# EAGLE library part W9825G6JH (library xess)
16M x 16 SDRAM 256Mb synchronous DRAM.
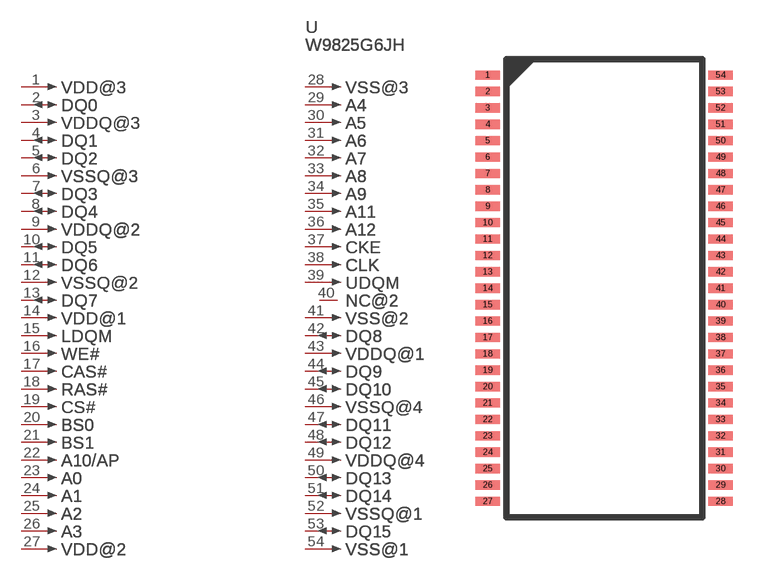
[diagram p134: symbol with the pads of TSOPII-54; footprint TSOPII-54]

Designator prefix U; gates PART=PV_GATE VDD@3=PIN_GATE_IN DQ0=PIN_GATE_IO VDDQ@3=PIN_GATE_IN DQ1=PIN_GATE_IO DQ2=PIN_GATE_IO VSSQ@3=PIN_GATE_IN DQ3=PIN_GATE_IO DQ4=PIN_GATE_IO VDDQ@2=PIN_GATE_IN DQ5=PIN_GATE_IO DQ6=PIN_GATE_IO VSSQ@2=PIN_GATE_IN DQ7=PIN_GATE_IO VDD@1=PIN_GATE_IN LDQM=PIN_GATE_IN WE#=PIN_GATE_IN CAS#=PIN_GATE_IN RAS#=PIN_GATE_IN CS#=PIN_GATE_IN BS0=PIN_GATE_IN BS1=PIN_GATE_IN A10/AP=PIN_GATE_IN A0=PIN_GATE_IN A1=PIN_GATE_IN A2=PIN_GATE_IN A3=PIN_GATE_IN VDD@2=PIN_GATE_IN VSS@3=PIN_GATE_IN A4=PIN_GATE_IN A5=PIN_GATE_IN A6=PIN_GATE_IN A7=PIN_GATE_IN A8=PIN_GATE_IN A9=PIN_GATE_IN A11=PIN_GATE_IN CKE=PIN_GATE_IN CLK=PIN_GATE_IN UDQM=PIN_GATE_IN NC@2=PIN_GATE_NC VSS@2=PIN_GATE_IN DQ8=PIN_GATE_IO VDDQ@1=PIN_GATE_IN DQ9=PIN_GATE_IO DQ10=PIN_GATE_IO VSSQ@4=PIN_GATE_IN DQ11=PIN_GATE_IO DQ12=PIN_GATE_IO VDDQ@4=PIN_GATE_IN DQ13=PIN_GATE_IO DQ14=PIN_GATE_IO VSSQ@1=PIN_GATE_IN DQ15=PIN_GATE_IO VSS@1=PIN_GATE_IN A12=PIN_GATE_IN

## W9825G6JH  [TSOPII-54]
1  VDD@3:1  in
2  DQ0:1
3  VDDQ@3:1  in
4  DQ1:1
5  DQ2:1
6  VSSQ@3:1  in
7  DQ3:1
8  DQ4:1
9  VDDQ@2:1  in
10  DQ5:1
11  DQ6:1
12  VSSQ@2:1  in
13  DQ7:1
14  VDD@1:1  in
15  LDQM:1  in
16  WE#:1  in
17  CAS#:1  in
18  RAS#:1  in
19  CS#:1  in
20  BS0:1  in
21  BS1:1  in
22  A10/AP:1  in
23  A0:1  in
24  A1:1  in
25  A2:1  in
26  A3:1  in
27  VDD@2:1  in
28  VSS@3:1  in
29  A4:1  in
30  A5:1  in
31  A6:1  in
32  A7:1  in
33  A8:1  in
34  A9:1  in
35  A11:1  in
36  A12:1  in
37  CKE:1  in
38  CLK:1  in
39  UDQM:1  in
40  NC@2:1  nc
41  VSS@2:1  in
42  DQ8:1
43  VDDQ@1:1  in
44  DQ9:1
45  DQ10:1
46  VSSQ@4:1  in
47  DQ11:1
48  DQ12:1
49  VDDQ@4:1  in
50  DQ13:1
51  DQ14:1
52  VSSQ@1:1  in
53  DQ15:1
54  VSS@1:1  in

## Footprint TSOPII-54 (pad centres in mm)
TSOPII-54 54-lead TSOP II 400 mil wide package.
smd 1.2 x 0.45: 1 0,0; 2 0,-0.8; 3 0,-1.6; 4 0,-2.4; 5 0,-3.2; 6 0,-4; 7 0,-4.8; 8 0,-5.6; 9 0,-6.4; 10 0,-7.2; 11 0,-8; 12 0,-8.8; 13 0,-9.6; 14 0,-10.4; 15 0,-11.2; 16 0,-12; 17 0,-12.8; 18 0,-13.6; 19 0,-14.4; 20 0,-15.2; 21 0,-16; 22 0,-16.8; 23 0,-17.6; 24 0,-18.4; 25 0,-19.2; 26 0,-20; 27 0,-20.8; 28 11.36,-20.8; 29 11.36,-20; 30 11.36,-19.2; 31 11.36,-18.4; 32 11.36,-17.6; 33 11.36,-16.8; 34 11.36,-16; 35 11.36,-15.2; 36 11.36,-14.4; 37 11.36,-13.6; 38 11.36,-12.8; 39 11.36,-12; 40 11.36,-11.2; 41 11.36,-10.4; 42 11.36,-9.6; 43 11.36,-8.8; 44 11.36,-8; 45 11.36,-7.2; 46 11.36,-6.4; 47 11.36,-5.6; 48 11.36,-4.8; 49 11.36,-4; 50 11.36,-3.2; 51 11.36,-2.4; 52 11.36,-1.6; 53 11.36,-0.8; 54 11.36,0